# Altium footprint library QFN17P65_400X400X100L55X30T216N.PcbLib: 1 footprints
Each footprint in its own frame and in the unit in brackets; x right, y up, seen from the top. Pads: shape width x height; smd on the part's side, far side on the other; paste and mask are expansions set on the pad; w line width, h text height; cw(c..) or ccw(c..) is an arc to the next point about the centre after c.
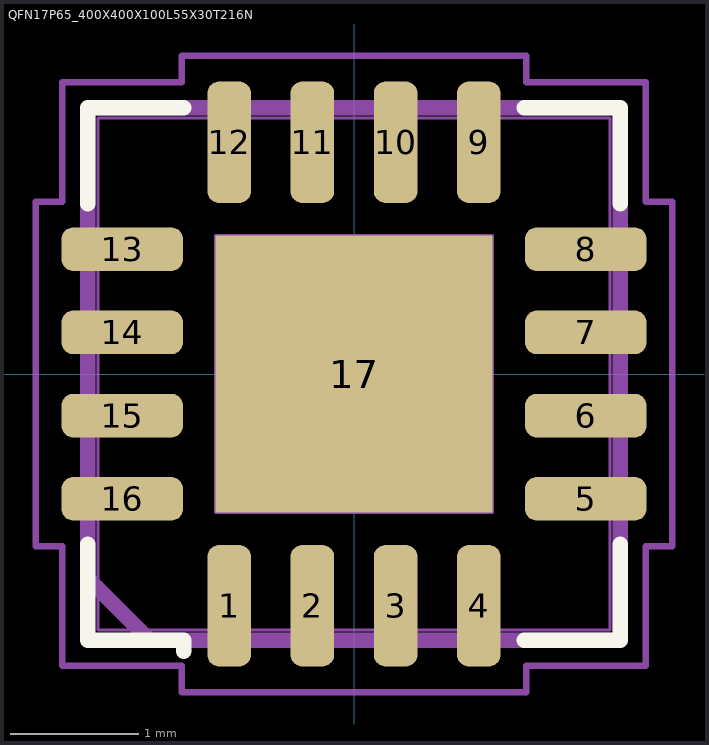
[diagram p0: the footprint, top view; thin cyan lines are the x and y axes]

## QFN17P65_400X400X100L55X30T216N [mm] "Quad Flat No-Lead (QFN with Tab), 0.65 mm pitch; square, 4 pin X 4 pin, 4.00 mm L X 4.00 mm W X 1.00 mm H body"
height 1
pads (17):
  rrect53% 0.34x0.95 smd: 1(-0.975,-1.81) 2(-0.325,-1.81) 3(0.325,-1.81) 4(0.975,-1.81) 9(0.975,1.81) 10(0.325,1.81) 11(-0.325,1.81) 12(-0.975,1.81)
  rrect53% 0.95x0.34 smd: 5(1.81,-0.975) 6(1.81,-0.325) 7(1.81,0.325) 8(1.81,0.975) 13(-1.81,0.975) 14(-1.81,0.325) 15(-1.81,-0.325) 16(-1.81,-0.975)
  rect 2.16x2.16 smd paste-2.16: 17(0,0)
Top Overlay:
  lines w0.12: -2.08,-1.33 -2.08,-2.08 -1.33,-2.08 -1.33,-2.165 ; -2.08,1.33 -2.08,2.08 -1.33,2.08 ; 1.33,-2.08 2.08,-2.08 2.08,-1.33 ; 1.33,2.08 2.08,2.08 2.08,1.33
Top Paste:
  region: -0.16,0.16 -0.92,0.16 -0.92,0.92 -0.16,0.92
  region: -0.16,-0.92 -0.92,-0.92 -0.92,-0.16 -0.16,-0.16
  region: 0.92,0.16 0.16,0.16 0.16,0.92 0.92,0.92
  region: 0.92,-0.92 0.16,-0.92 0.16,-0.16 0.92,-0.16
Mechanical 3:
  lines w0.12: -2.08,-1.595 -2.08,2.08 2.08,2.08 2.08,-2.08 -1.595,-2.08 -2.08,-1.595
Mechanical 5:
  lines w0.025: -2,-2 2,-2 2,2 -2,2 -2,-2 ; -2,-1.128 -2,-0.823 -1.603,-0.823 cw(c-1.603,-0.975) -1.603,-1.127 -2,-1.128 ; -2,-0.477 -2,-0.172 -1.603,-0.172 cw(c-1.603,-0.325) -1.603,-0.477 -2,-0.477 ; -2,0.172 -2,0.477 -1.603,0.477 cw(c-1.603,0.325) -1.603,0.173 -2,0.172 ; -2,0.823 -2,1.128 -1.603,1.128 cw(c-1.603,0.975) -1.603,0.823 -2,0.823 ; -1.128,-2 -0.823,-2 -0.823,-1.603 ccw(c-0.975,-1.603) -1.127,-1.603 -1.128,-2 ; -1.127,1.603 ccw(c-0.975,1.603) -0.823,1.603 -0.823,2 -1.128,2 -1.128,1.603 ; -1.08,-1.08 -1.08,1.08 1.08,1.08 1.08,-1.08 -1.08,-1.08 ; -0.477,-2 -0.172,-2 -0.172,-1.603 ccw(c-0.325,-1.603) -0.477,-1.603 -0.477,-2 ; -0.477,1.603 ccw(c-0.325,1.603) -0.173,1.603 -0.172,2 -0.477,2 -0.477,1.603 ; 0.172,-2 0.477,-2 0.477,-1.603 ccw(c0.325,-1.603) 0.173,-1.603 0.172,-2 ; 0.173,1.603 ccw(c0.325,1.603) 0.477,1.603 0.477,2 0.172,2 0.172,1.603 ; 0.823,-2 1.128,-2 1.128,-1.603 ccw(c0.975,-1.603) 0.823,-1.603 0.823,-2 ; 0.823,1.603 ccw(c0.975,1.603) 1.127,1.603 1.128,2 0.823,2 0.823,1.603 ; 1.603,-1.127 cw(c1.603,-0.975) 1.603,-0.823 2,-0.823 2,-1.128 1.603,-1.128 ; 1.603,-0.477 cw(c1.603,-0.325) 1.603,-0.173 2,-0.172 2,-0.477 1.603,-0.477 ; 1.603,0.173 cw(c1.603,0.325) 1.603,0.477 2,0.477 2,0.172 1.603,0.172 ; 1.603,0.823 cw(c1.603,0.975) 1.603,1.127 2,1.128 2,0.823 1.603,0.823
Mechanical 7:
  circle w0.05: c0,0 r0.25
  lines w0.05: -0.35,0 0.35,0 ; 0,-0.35 0,0.35 ; -2.485,-1.345 -2.28,-1.345 -2.28,-2.28 -1.345,-2.28 -1.345,-2.485 1.345,-2.485 1.345,-2.28 2.28,-2.28 2.28,-1.345 2.485,-1.345 2.485,1.345 2.28,1.345 2.28,2.28 1.345,2.28 1.345,2.485 -1.345,2.485 -1.345,2.28 -2.28,2.28 -2.28,1.345 -2.485,1.345 -2.485,-1.345
Mechanical 9:
  text "'.Designator'" at -5.505,-0.429 h1
3D body: height 2, standoff 0.05, extent -2.475,-2.475 2.475,2.475
3D body "QFN17P65_400X400X100L55X30T216.STEP": height 1, standoff 0, extent -2.05,-2.05 2.05,2.05
3D body: height 1.04, standoff 0, extent -2.485,-2.485 2.485,2.485